# Altium schematic symbol library ICs.SchLib: 168 symbols (part 2 of 2)
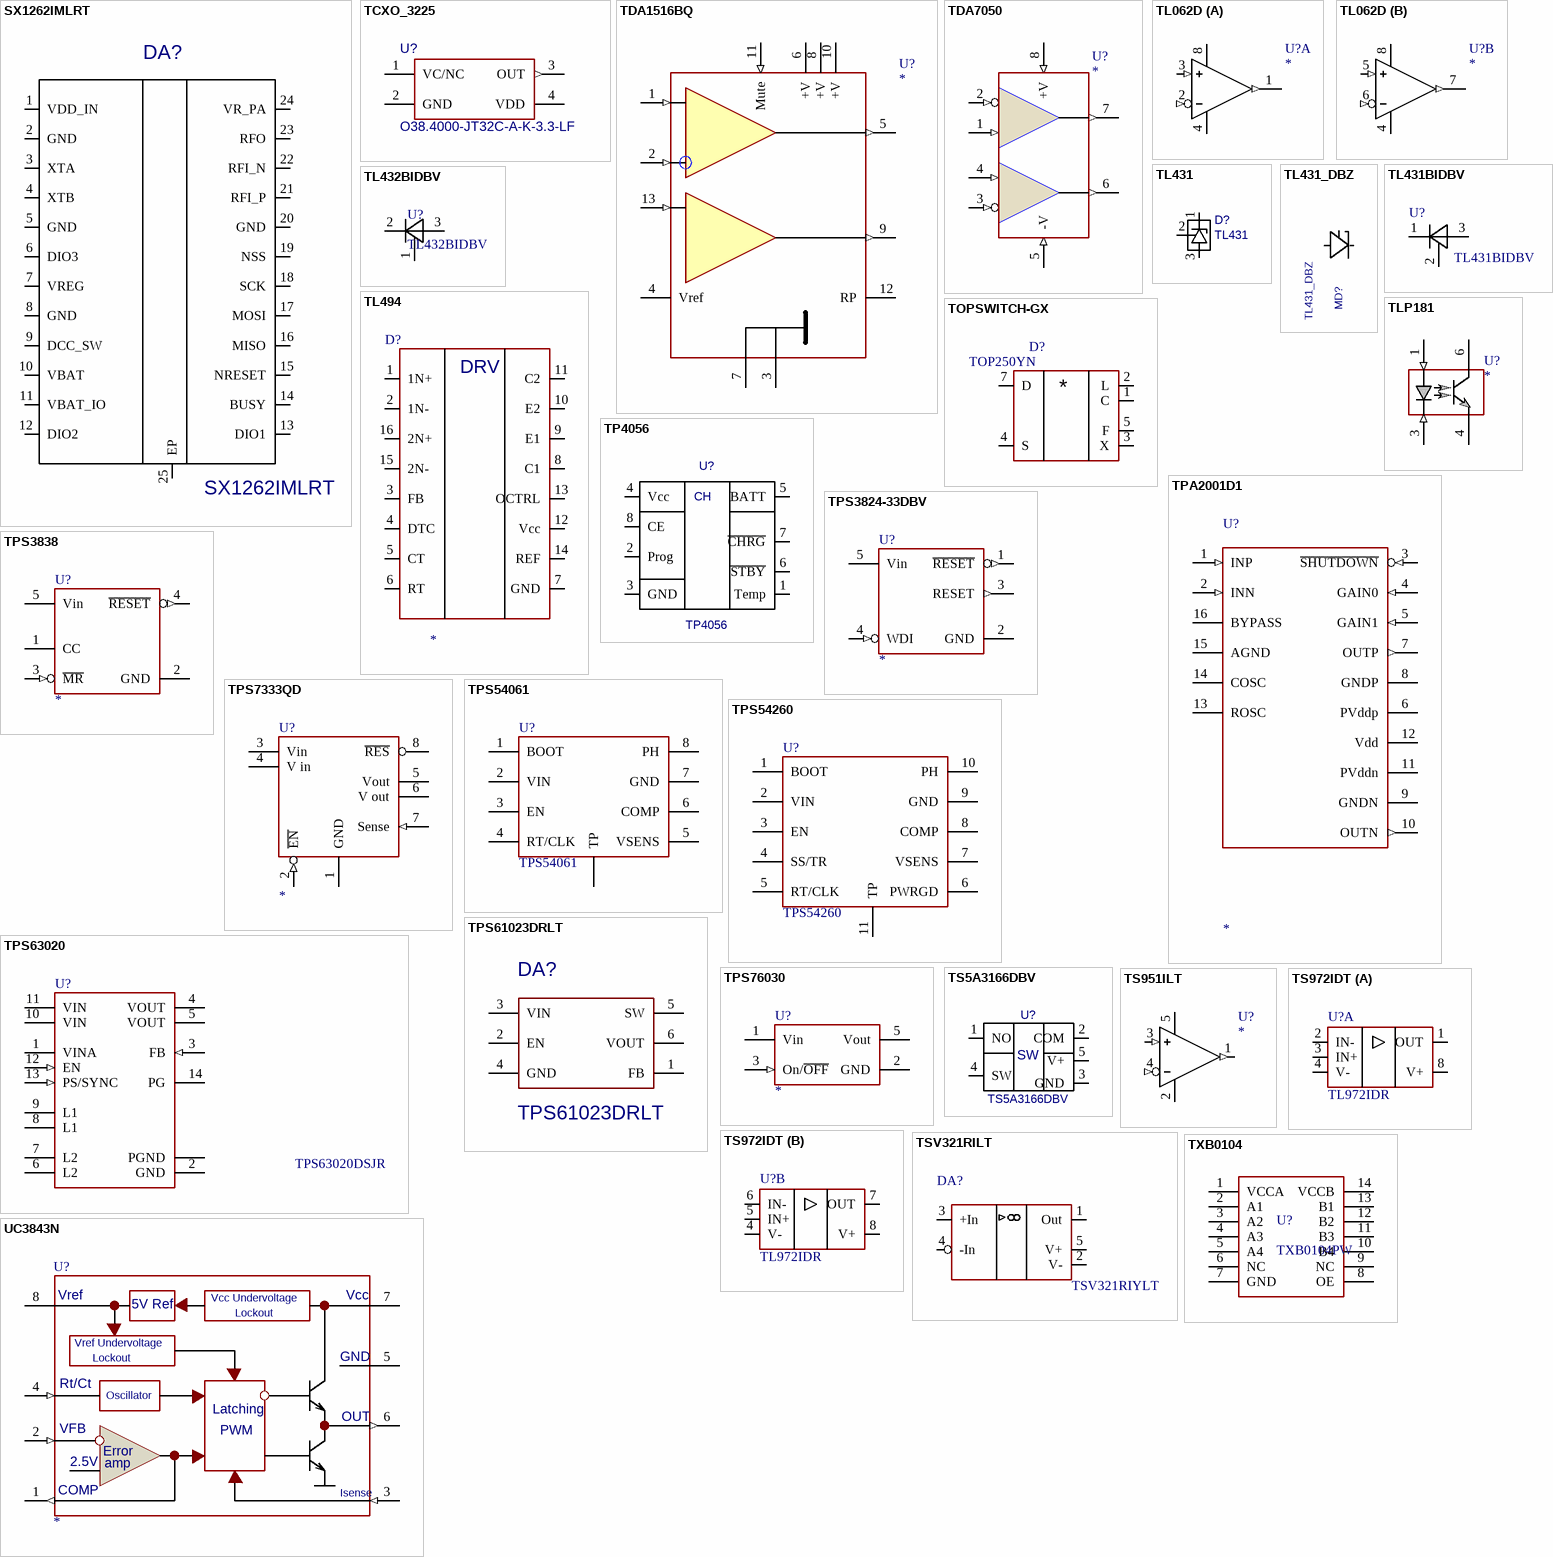
[diagram p9: symbols SX1262IMLRT to UC3843N]

## TPS61023DRLT
designator DA?
Boost Switching Regulator IC Positive Adjustable 2.2V 1 Output 3A SOT-563, SOT-666; Library Part: IC`s.SchLib; Manufacturer: Texas Instruments; Value: {Value}; Mounting  Method: SMD; IC Type: PMIC; Part Number: TPS61023DRLT; Footprint Part: IC-package.PcbLib; Package: SOT-563; Part Type: IC; Component Type: SMD; Temperature Range: -40°C ~ 125°C (TJ); URL: https://www.ti.com/general/docs/suppproductinfo.tsp?distId=10&gotoUrl=https%3A%2F%2Fwww.ti.com%2Flit%2Fgpn%2Ftps61023; Suplier 1: https://www.digikey.com.au/en/products/detail/texas-instruments/TPS61023DRLT/11310622?s=N4IgTCBcDaICoAUDKA2AjABjAZgCICUAZOEAXQF8g; Man#Part Num#: TPS61023DRLT
footprint SOT-563
pins: 1 FB, 2 EN, 3 VIN, 4 GND, 5 SW, 6 VOUT

## TPS63020
designator U?, comment TPS63020DSJR
Buck-Boost Converter With 4-A Switches with Adjustable Output Voltage; Вид: Мікросхема
pins: 1 VINA, 2 GND (power), 3 FB (in), 4 VOUT, 5 VOUT, 6 L2, 7 L2, 8 L1, 9 L1, 10 VIN, 11 VIN, 12 EN (in), 13 PS/SYNC (in), 14 PG, 15 PGND (power)

## TPS76030
designator U?
ULTRALOW-POWER LOW-DROPOUT LINEAR REGULATOR; Вид: Мікросхема
footprint SOT-23-5
pins: 1 Vin (power), 2 GND (power), 3 On/~{OFF} (in), 5 Vout (power)

## TS5A3166DBV
designator U?
Value: *
footprint SOT23-5
pins: 1 NO, 2 COM, 3 GND, 4 SW, 5 V+

## TS951ILT
designator U?
RAIL TO RAIL single BiCMOS; Вид: Мікросхема
footprint SOT-23-5
pins: 1 OUT (out), 2 V- (power), 3 +IN (in), 4 -IN (in), 5 V+ (power)

## TS972IDT
designator U?, comment TL972IDR
Output rail-to-rail very low noise operational amplifier, SOIC-8; Вид: Мікросхема
footprint SO-8 (SOIC, 8-Leads, Body 4,90x3,90mm, Pitch 1,27mm, IPC Medium Density)
pins on every part: 4 V- (power), 8 V+ (power)
part A pins: 1 OUT, 2 IN-, 3 IN+
part B pins: 5 IN+, 6 IN-, 7 OUT

## TSV321RILT
designator DA?, comment TSV321RIYLT
General purpose input/output rail-to-rail low-power operational amplifiers; Вид: Мікросхема
footprint SOT-23 (Lead Small Outline Transistor Package)
pins: 1 Out, 2 V-, 3 +In, 4 -In, 5 V+

## TXB0104
designator U?, comment TXB0104PW
Вид: Оптрон
footprint SSOP-14 (TSOP, 14-Leads, Body 5,00x4,40mm, Pitch 0,65mm, IPC Medium Density)
pins: 1 VCCA, 2 A1, 3 A2, 4 A3, 5 A4, 6 NC, 7 GND, 8 OE, 9 NC, 10 B4, 11 B3, 12 B2, 13 B1, 14 VCCB

## UC3843N
designator U?
Вид: Мікросхема
footprint SO-8 (SOIC, 8-Leads, Body 4,90x3,90mm, Pitch 1,27mm, IPC Medium Density)
pins: 1 comp (out), 2 VFB (in), 3 Isense (in), 4 Rt/Ct (in), 5 GND (power), 6 OUT (out), 7 Vcc (power), 8 Vref (power)
text: Vcc Undervoltage; 5V Ref; Lockout; Vref Undervoltage; Oscillator; Latching; PWM; Error; 2.5V; amp; COMP

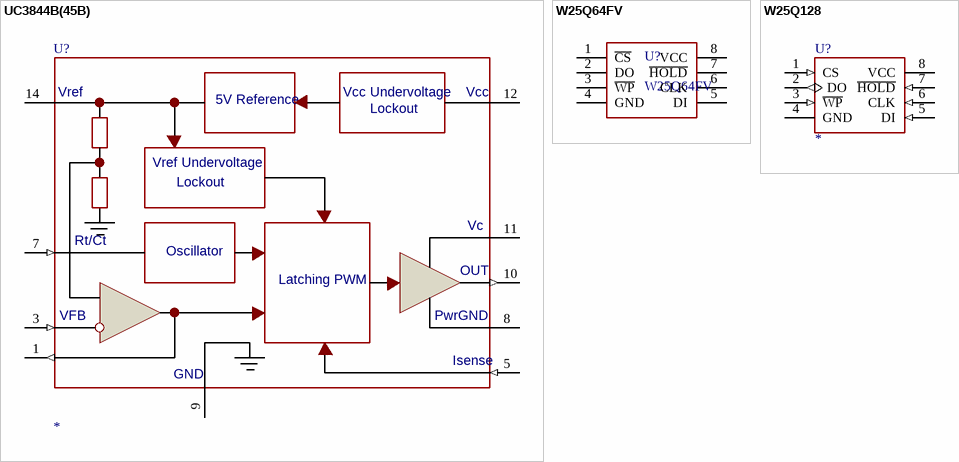
[diagram p8: symbols UC3844B(45B) to W25Q128]

## UC3844B(45B)
designator U?
Вид: Мікросхема
footprint SO-8 (SOIC, 8-Leads, Body 4,90x3,90mm, Pitch 1,27mm, IPC Medium Density)
pins: 1 Out/comp (out), 3 VFB (in), 5 Isense (in), 7 Rt/Ct (in), 8 Pwr_GND (power), 9 GND (power), 10 OUT (out), 11 Vc (power), 12 Vcc (power), 14 Vref (power)
text: Vcc Undervoltage; 5V Reference; Lockout; Vref Undervoltage; Oscillator; Latching PWM; PwrGND

## W25Q64FV
designator U?
Вид: Мікросхема
footprint SO-8 (SOIC, 8-Leads, Body 4,90x3,90mm, Pitch 1,27mm, IPC Medium Density)
pins: 1 ~{CS}, 2 DO, 3 ~{WP}, 4 GND, 5 DI, 6 CLK, 7 ~{HOLD}, 8 VCC

## W25Q128
designator U?
SPI FLASH memory; Вид: Мікросхема
footprint SO-8 (SOIC, 8-Leads, Body 4,90x3,90mm, Pitch 1,27mm, IPC Medium Density)
pins: 1 CS (in), 2 DO (out), 3 ~{WP} (in), 4 GND (power), 5 DI (in), 6 CLK (in), 7 ~{HOLD} (in), 8 VCC (power)